# EAGLE library part FTDI (library LX_Eagle_Lib)
FTDI with stop mask on bottom. Only accessible from bottom (ideally with pogo pins)
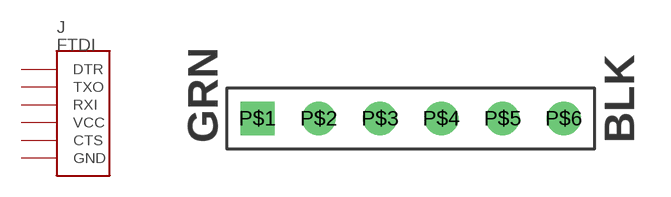
[diagram p4: symbol with the pads of FTDI_DISC; footprint FTDI_DISC]

Designator prefix J

## FTDI  [FTDI_DISC]
P$1  DTR
P$2  TXO
P$3  RXI
P$4  VCC
P$5  CTS
P$6  GND

## Footprint FTDI_DISC (pad centres in mm)
Discrete FTDI header
drill 0.889 square: P$1 -6.35,0
drill 0.889: P$2 -3.81,0; P$3 -1.27,0; P$4 1.27,0; P$5 3.81,0; P$6 6.35,0